# Altium footprint library QORVO_RADIO_FOOTPRINT_LIB.PcbLib: 18 footprints (part 1 of 2)
Each footprint in its own frame and in the unit in brackets; x right, y up, seen from the top. Pads: shape width x height; smd on the part's side, far side on the other; paste and mask are expansions set on the pad; w line width, h text height; cw(c..) or ccw(c..) is an arc to the next point about the centre after c.
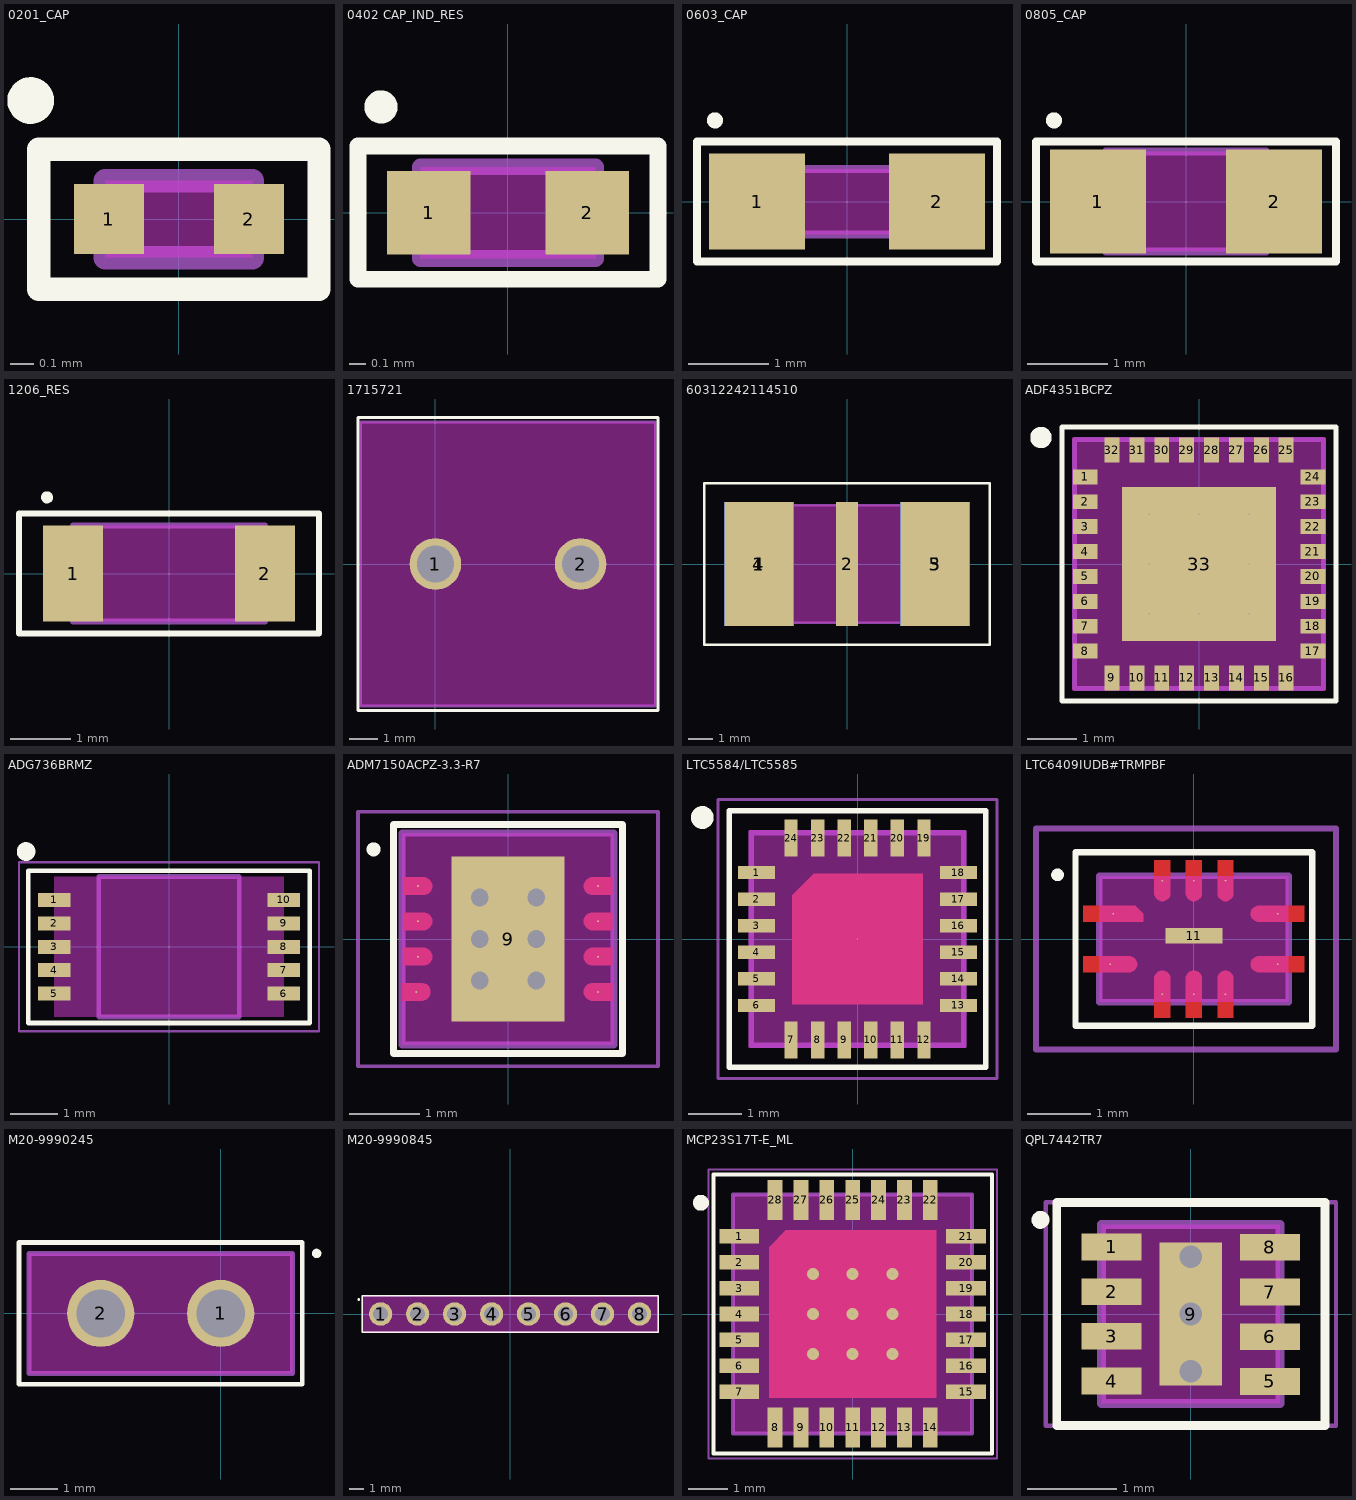
[diagram p0: the footprints below, top view; thin cyan lines are the x and y axes]

## 0201_CAP [mm]
pads (2):
  rect 0.3x0.3 smd mask+0.035: 1(-0.3,0) 2(0.3,0)
Top Overlay:
  circle w0.1: c-0.635,0.508 r0.05
  lines w0.1: -0.6,-0.3 0.6,-0.3 0.6,0.3 -0.6,0.3 -0.6,-0.3
Bottom Overlay:
  lines w0.1: -0.6,-0.3 0.6,-0.3 0.6,0.3 -0.6,0.3 -0.6,-0.3
Keep-Out Layer:
  rectangle: -0.315,-0.165 0.315,0.165
Mechanical 15:
  lines w0.1: -0.315,-0.165 0.315,-0.165 0.315,0.165 -0.315,0.165 -0.315,-0.165

## 0402 CAP_IND_RES [mm]
pads (2):
  rect 0.5x0.5 smd mask+0.035: 1(-0.475,0) 2(0.475,0)
Top Overlay:
  circle w0.1: c-0.762,0.635 r0.05
  lines w0.1: -0.9,-0.4 0.9,-0.4 0.9,0.4 -0.9,0.4 -0.9,-0.4
Bottom Overlay:
  lines w0.1: -0.9,-0.4 0.9,-0.4 0.9,0.4 -0.9,0.4 -0.9,-0.4
Keep-Out Layer:
  rectangle: -0.525,-0.275 0.525,0.275
Mechanical 15:
  lines w0.1: -0.525,-0.275 0.525,-0.275 0.525,0.275 -0.525,0.275 -0.525,-0.275

## 0603_CAP [mm]
pads (2):
  rect 1.2x1.2 smd mask+0.035: 1(-1.125,0) 2(1.125,0)
Top Overlay:
  circle w0.1: c-1.651,1.016 r0.05
  lines w0.1: -1.875,-0.75 1.875,-0.75 1.875,0.75 -1.875,0.75 -1.875,-0.75
Bottom Overlay:
  lines w0.1: -1.875,-0.75 1.875,-0.75 1.875,0.75 -1.875,0.75 -1.875,-0.75
Keep-Out Layer:
  rectangle: -0.81,-0.41 0.81,0.41
Mechanical 15:
  lines w0.1: -0.81,-0.41 0.81,-0.41 0.81,0.41 -0.81,0.41 -0.81,-0.41

## 0805_CAP [mm]
pads (2):
  rect 1.2x1.3 smd mask+0.035: 1(-1.1,0) 2(1.1,0)
Top Overlay:
  circle w0.1: c-1.651,1.016 r0.05
  lines w0.1: -1.875,-0.75 1.875,-0.75 1.875,0.75 -1.875,0.75 -1.875,-0.75
Bottom Overlay:
  lines w0.1: -1.875,-0.75 1.875,-0.75 1.875,0.75 -1.875,0.75 -1.875,-0.75
Keep-Out Layer:
  rectangle: -1,-0.625 1,0.625
Mechanical 15:
  lines w0.1: -1,-0.625 1,-0.625 1,0.625 -1,0.625 -1,-0.625

## 1206_RES [mm]
pads (2):
  rect 1x1.6 smd mask+0.035: 1(-1.6,0) 2(1.6,0)
Top Overlay:
  circle w0.1: c-2.032,1.27 r0.05
  lines w0.1: -2.5,-1 2.5,-1 2.5,1 -2.5,1 -2.5,-1
Bottom Overlay:
  lines w0.1: -2.5,-1 2.5,-1 2.5,1 -2.5,1 -2.5,-1
Keep-Out Layer:
  rectangle: -1.6,-0.8 1.6,0.8
Mechanical 15:
  lines w0.1: -1.6,-0.8 1.6,-0.8 1.6,0.8 -1.6,0.8 -1.6,-0.8

## 1715721 [mil] "PS CONNECTOR"
pads (2):
  round 71 / inner round 60 / far side round 71 hole 51.18 paste-99999 mask+0: 1(0,0) 2(200,0)
Top Overlay:
  lines w3.94: -106.69,-201.77 306.69,-201.77 306.69,201.77 -106.69,201.77 -106.69,-201.77
Bottom Overlay:
  lines w3.94: -106.69,-201.77 306.69,-201.77 306.69,201.77 -106.69,201.77 -106.69,-201.77
Keep-Out Layer:
  rectangle: -102.95,-195.87 302.95,195.87
Mechanical 15:
  lines w3.94: -102.95,-195.87 302.95,-195.87 302.95,195.87 -102.95,195.87 -102.95,-195.87
3D body "pxc_1715721_05_01_MKDS-1-5-2-5-08_3D.stp": height 559.05, standoff -137.8, extent -121.22,-185 301.22,202.01

## 60312242114510 [mm] "FEMALE SMA - EDGE MOUNT"
pads (5):
  rect 2.8x5 smd mask+0.1: 1(-3.55,0) 3(3.55,0)
  rect 0.9x5 smd mask+0.1: 2(0,0)
  rect 2.8x5 smd far side mask+0.1: 4(-3.55,0) 5(3.55,0)
Top Overlay:
  lines w0.1: -5.75,-3.25 5.75,-3.25 5.75,3.25 -5.75,3.25 -5.75,-3.25
Bottom Overlay:
  lines w0.1: -5.75,-3.25 5.75,-3.25 5.75,3.25 -5.75,3.25 -5.75,-3.25
Keep-Out Layer:
  rectangle: -4.76,-2.375 4.76,2.375
Mechanical 15:
  lines w0.1: -4.76,-2.375 4.76,-2.375 4.76,2.375 -4.76,2.375 -4.76,-2.375
3D body "Download_STP_60312242114510_rev1.stp": height 5.49, standoff -4.69, extent -5.1,-32.975 5.1,2.21

## ADF4351BCPZ [mm] "WIDEBAND SYNTHESIZER"
pads (33):
  rect 0.5x0.3 smd mask+0.05: 1(-2.286,1.75) 2(-2.286,1.25) 3(-2.286,0.75) 4(-2.286,0.25) 5(-2.286,-0.25) 6(-2.286,-0.75) 7(-2.286,-1.25) 8(-2.286,-1.75) 17(2.286,-1.75) 18(2.286,-1.25) 19(2.286,-0.75) 20(2.286,-0.25) 21(2.286,0.25) 22(2.286,0.75) 23(2.286,1.25) 24(2.286,1.75)
  rect 0.3x0.5 smd mask+0.05: 9(-1.75,-2.286) 10(-1.25,-2.286) 11(-0.75,-2.286) 12(-0.25,-2.286) 13(0.25,-2.286) 14(0.75,-2.286) 15(1.25,-2.286) 16(1.75,-2.286) 25(1.75,2.286) 26(1.25,2.286) 27(0.75,2.286) 28(0.25,2.286) 29(-0.25,2.286) 30(-0.75,2.286) 31(-1.25,2.286) 32(-1.75,2.286)
  rect 3.1x3.1 smd mask+0.15: 33(0,0)
via 1,1 diameter 0.3 hole 0
via 0,1 diameter 0.3 hole 0
via -1,1 diameter 0.3 hole 0
via 1,0 diameter 0.3 hole 0
via 0,0 diameter 0.3 hole 0
via -1,0 diameter 0.3 hole 0
via 1,-1 diameter 0.3 hole 0
via 0,-1 diameter 0.3 hole 0
via -1,-1 diameter 0.3 hole 0
Top Overlay:
  circle w0.23: c-3.175,2.54 r0.1
  lines w0.1: -2.75,-2.75 2.75,-2.75 2.75,2.75 -2.75,2.75 -2.75,-2.75
Bottom Overlay:
  lines w0.1: -2.75,-2.75 2.75,-2.75 2.75,2.75 -2.75,2.75 -2.75,-2.75
Keep-Out Layer:
  rectangle: -2.54,-2.54 2.54,2.54
Mechanical 13:
  lines w0.1: -2.5,-2.5 2.5,-2.5 2.5,2.5 -2.5,2.5 -2.5,-2.5
3D body "ADF4351BCPZ.stp": height 0.75, standoff 0, extent -2.5,-2.5 2.5,2.5

## ADG736BRMZ [mm] "SWITCH - SPDT"
pads (10):
  rect 0.7x0.3 smd mask-2539.97: 1(-2.45,1) 2(-2.45,0.5) 3(-2.45,0) 4(-2.45,-0.5) 5(-2.45,-1) 6(2.45,-1) 7(2.45,-0.5) 8(2.45,0) 9(2.45,0.5) 10(2.45,1)
Top Overlay:
  circle w0.2: c-3.048,2.032 r0.1
  lines w0.1: -3,-1.625 -3,1.625 3,1.625 3,-1.625 -3,-1.625
Bottom Overlay:
  lines w0.1: -3,-1.625 -3,1.625 3,1.625 3,-1.625 -3,-1.625
Top Solder:
  region: 2.025,-0.7 2.025,-0.3 2.875,-0.3 2.875,-0.7
  region: 2.025,-1.2 2.025,-0.8 2.875,-0.8 2.875,-1.2
  region: 2.025,0.8 2.025,1.2 2.875,1.2 2.875,0.8
  region: 2.025,0.3 2.025,0.7 2.875,0.7 2.875,0.3
  region: 2.025,-0.2 2.025,0.2 2.875,0.2 2.875,-0.2
  region: -2.875,-1.2 -2.875,-0.8 -2.025,-0.8 -2.025,-1.2
  region: -2.875,-0.7 -2.875,-0.3 -2.025,-0.3 -2.025,-0.7
  region: -2.875,0.8 -2.875,1.2 -2.025,1.2 -2.025,0.8
  region: -2.875,0.3 -2.875,0.7 -2.025,0.7 -2.025,0.3
  region: -2.875,-0.2 -2.875,0.2 -2.025,0.2 -2.025,-0.2
Keep-Out Layer:
  rectangle: -2.45,-1.5 2.45,1.5
Mechanical 15:
  lines w0.1: -1.5,-1.5 -1.5,1.5 1.5,1.5 1.5,-1.5 -1.5,-1.5
Mechanical 20:
  lines w0.05: -3.2,-1.8 -3.2,1.8 3.2,1.8 3.2,-1.8 -3.2,-1.8
3D body "ADG736BRMZ.stp": height 1.1, standoff 0, extent -2.45,-1.5 2.45,1.5

## ADM7150ACPZ-3.3-R7 [mm] "3.3V REG"
pads (9):
  round 0.025 smd mask-2539.97: 1(-1.275,0.75) 2(-1.3,-0.75) 2(-1.275,0.25) 3(-1.275,-0.25) 5(1.275,-0.75) 6(1.275,-0.25) 7(1.275,0.25) 8(1.275,0.75)
  rect 1.6x2.34 smd mask+0.1: 9(0,0)
via 0.4,-0.585 diameter 0.254 hole 0.254
via -0.4,-0.585 diameter 0.254 hole 0.254
via 0.4,0.585 diameter 0.254 hole 0.254
via -0.4,0.585 diameter 0.254 hole 0.254
via 0.4,0 diameter 0.254 hole 0.254
via -0.4,0 diameter 0.254 hole 0.254
Top Layer:
  region: -1.2,0.625 -1.475,0.625 -1.475,0.875 -1.2,0.875 -1.175,0.875 -1.129,0.856 -1.094,0.821 -1.075,0.775 -1.075,0.75 -1.075,0.725 -1.094,0.679 -1.129,0.644 -1.175,0.625
  region: -1.2,0.125 -1.475,0.125 -1.475,0.375 -1.2,0.375 -1.175,0.375 -1.129,0.356 -1.094,0.321 -1.075,0.275 -1.075,0.25 -1.075,0.225 -1.094,0.179 -1.129,0.144 -1.175,0.125
  region: 1.2,0.875 1.475,0.875 1.475,0.625 1.2,0.625 1.175,0.625 1.129,0.644 1.094,0.679 1.075,0.725 1.075,0.75 1.075,0.775 1.094,0.821 1.129,0.856 1.175,0.875
  region: 1.2,0.375 1.475,0.375 1.475,0.125 1.2,0.125 1.175,0.125 1.129,0.144 1.094,0.179 1.075,0.225 1.075,0.25 1.075,0.275 1.094,0.321 1.129,0.356 1.175,0.375
  region: 1.2,-0.125 1.475,-0.125 1.475,-0.375 1.2,-0.375 1.175,-0.375 1.129,-0.356 1.094,-0.321 1.075,-0.275 1.075,-0.25 1.075,-0.225 1.094,-0.179 1.129,-0.144 1.175,-0.125
  region: 1.2,-0.625 1.475,-0.625 1.475,-0.875 1.2,-0.875 1.175,-0.875 1.129,-0.856 1.094,-0.821 1.075,-0.775 1.075,-0.75 1.075,-0.725 1.094,-0.679 1.129,-0.644 1.175,-0.625
  region: -1.2,-0.375 -1.475,-0.375 -1.475,-0.125 -1.2,-0.125 -1.175,-0.125 -1.129,-0.144 -1.094,-0.179 -1.075,-0.225 -1.075,-0.25 -1.075,-0.275 -1.094,-0.321 -1.129,-0.356 -1.175,-0.375
  region: -1.225,-0.875 -1.5,-0.875 -1.5,-0.625 -1.225,-0.625 -1.2,-0.625 -1.154,-0.644 -1.119,-0.679 -1.1,-0.725 -1.1,-0.75 -1.1,-0.775 -1.119,-0.821 -1.154,-0.856 -1.2,-0.875
Top Overlay:
  circle w0.1: c-1.905,1.27 r0.05
  lines w0.1: -1.625,-1.625 -1.625,1.625 1.625,1.625 1.625,-1.625 -1.625,-1.625
Bottom Overlay:
  lines w0.1: -1.625,-1.625 -1.625,1.625 1.625,1.625 1.625,-1.625 -1.625,-1.625
Top Solder:
  drawing of 8 lines, arcs and shapes, not listed
Keep-Out Layer:
  rectangle: -1.5,-1.5 1.5,1.5
Mechanical 15:
  lines w0.1: -1.5,-1.5 1.5,-1.5 1.5,1.5 -1.5,1.5 -1.5,-1.5
Mechanical 20:
  lines w0.05: -2.125,-1.8 2.125,-1.8 2.125,1.8 -2.125,1.8 -2.125,-1.8
3D body "ADM7150ACPZ-3.3-R7.stp": height 0.85, standoff 0, extent -1.55,-1.5 1.55,1.5

## LTC5584/LTC5585 [mm] "MIXERS /  / LTC5585IUF#PBF / LTC5584IUF#PBF"
pads (25):
  rect 0.7x0.25 smd mask+0.05: 1(-1.9,1.25) 2(-1.9,0.75) 3(-1.9,0.25) 4(-1.9,-0.25) 5(-1.9,-0.75) 6(-1.9,-1.25) 13(1.9,-1.25) 14(1.9,-0.75) 15(1.9,-0.25) 16(1.9,0.25) 17(1.9,0.75) 18(1.9,1.25)
  rect 0.25x0.7 smd mask+0.05: 7(-1.25,-1.9) 8(-0.75,-1.9) 9(-0.25,-1.9) 10(0.25,-1.9) 11(0.75,-1.9) 12(1.25,-1.9) 19(1.25,1.9) 20(0.75,1.9) 21(0.25,1.9) 22(-0.25,1.9) 23(-0.75,1.9) 24(-1.25,1.9)
  round 0.025 smd mask-2539.97: 25(0,0)
Top Layer:
  region: 1.225,1.225 1.225,-1.225 -1.225,-1.225 -1.225,0.825 -0.825,1.225
Top Overlay:
  circle w0.23: c-2.921,2.286 r0.1
  lines w0.1: -2.413,-2.413 2.413,-2.413 2.413,2.413 -2.413,2.413 -2.413,-2.413
Bottom Overlay:
  lines w0.1: -2.413,-2.413 2.413,-2.413 2.413,2.413 -2.413,2.413 -2.413,-2.413
Top Solder:
  region: -1.25,-1.25 -1.25,1.25 1.25,1.25 1.25,-1.25
Keep-Out Layer:
  rectangle: -2.05,-2.05 2.05,2.05
Mechanical 15:
  lines w0.1: -2,-2 2,-2 2,2 -2,2 -2,-2
Mechanical 20:
  lines w0.05: -2.625,-2.625 2.625,-2.625 2.625,2.625 -2.625,2.625 -2.625,-2.625
3D body "LTC5585IUF#PBF.step": height 0.8, standoff 0, extent -2.05,-2.05 2.05,2.05

## LTC6409IUDB#TRMPBF [mm] "DIFFERENTAL OP-AMP"
height 0.8
pads (11):
  round 0.025 smd mask-2539.97: 1(-1.275,0.4) 2(-1.325,-0.4) 3(-0.5,-0.875) 4(0,-0.875) 5(0.5,-0.875) 6(1.325,-0.4) 7(1.325,0.4) 8(0.5,0.925) 9(0,0.925) 10(-0.5,0.925)
  rect 0.9x0.25 smd mask-2539.97: 11(0,0.05)
Top Layer:
  region: 1.025,0.525 1.75,0.525 1.75,0.275 1.025,0.275 1,0.275 0.954,0.294 0.919,0.329 0.9,0.375 0.9,0.4 0.9,0.425 0.919,0.471 0.954,0.506 1,0.525
  region: 1.025,-0.275 1.75,-0.275 1.75,-0.525 1.025,-0.525 1,-0.525 0.954,-0.506 0.919,-0.471 0.9,-0.425 0.9,-0.4 0.9,-0.375 0.919,-0.329 0.954,-0.294 1,-0.275
  region: 0.625,-0.625 0.625,-1.25 0.375,-1.25 0.375,-0.625 0.375,-0.6 0.394,-0.554 0.429,-0.519 0.475,-0.5 0.5,-0.5 0.525,-0.5 0.571,-0.519 0.606,-0.554 0.625,-0.6
  region: 0.125,-0.625 0.125,-1.25 -0.125,-1.25 -0.125,-0.625 -0.125,-0.6 -0.106,-0.554 -0.071,-0.519 -0.025,-0.5 0,-0.5 0.025,-0.5 0.071,-0.519 0.106,-0.554 0.125,-0.6
  region: -0.375,-0.625 -0.375,-1.25 -0.625,-1.25 -0.625,-0.625 -0.625,-0.6 -0.606,-0.554 -0.571,-0.519 -0.525,-0.5 -0.5,-0.5 -0.475,-0.5 -0.429,-0.519 -0.394,-0.554 -0.375,-0.6
  region: -1.025,-0.525 -1.75,-0.525 -1.75,-0.275 -1.025,-0.275 -1,-0.275 -0.954,-0.294 -0.919,-0.329 -0.9,-0.375 -0.9,-0.4 -0.9,-0.425 -0.919,-0.471 -0.954,-0.506 -1,-0.525
  region: -0.8,0.275 -1.75,0.275 -1.75,0.525 -0.925,0.525 -0.8,0.4
  region: 0.375,0.725 0.375,1.25 0.625,1.25 0.625,0.725 0.625,0.7 0.606,0.654 0.571,0.619 0.525,0.6 0.5,0.6 0.475,0.6 0.429,0.619 0.394,0.654 0.375,0.7
  region: -0.125,0.725 -0.125,1.25 0.125,1.25 0.125,0.725 0.125,0.7 0.106,0.654 0.071,0.619 0.025,0.6 0,0.6 -0.025,0.6 -0.071,0.619 -0.106,0.654 -0.125,0.7
  region: -0.625,0.725 -0.625,1.25 -0.375,1.25 -0.375,0.725 -0.375,0.7 -0.394,0.654 -0.429,0.619 -0.475,0.6 -0.5,0.6 -0.525,0.6 -0.571,0.619 -0.606,0.654 -0.625,0.7
Top Overlay:
  circle w0.1: c-2.159,1.016 r0.05
  lines w0.1: -1.875,-1.375 1.875,-1.375 1.875,1.375 -1.875,1.375 -1.875,-1.375
Top Solder:
  drawing of 11 lines, arcs and shapes, not listed
Keep-Out Layer:
  rectangle: -1.5,-1 1.5,1
Mechanical 15:
  lines w0.1: -1.5,-1 -1.5,1 1.5,1 1.5,-1 -1.5,-1
Mechanical 20:
  lines w0.1: -2.5,-1.75 -2.5,1.75 2.25,1.75 2.25,-1.75 -2.5,-1.75
3D body: height 0.8, standoff 0.05, extent -1.524,-1.016 1.524,1.016
3D body: height 0.8, standoff 0.05, extent -1.524,-1.016 1.524,1.016

## M20-9990245 [mil] "HEADER FOR I/O CONTROL - 2"
pads (2):
  round 56 hole 40.16 paste-99999 mask+0: 1(0,0) 2(-100,0)
Top Overlay:
  circle w3.94: c80,50 r1.97
  lines w3.94: -168.11,-59.06 68.11,-59.06 68.11,59.06 -168.11,59.06 -168.11,-59.06
Bottom Overlay:
  lines w3.94: -167.5,-60 68.72,-60 68.72,58.11 -167.5,58.11 -167.5,-60
Keep-Out Layer:
  rectangle: -160,-50 60,50
Mechanical 15:
  lines w3.94: -159.84,-50 59.84,-50 59.84,50 -159.84,50 -159.84,-50
3D body "M20-9990245.step": height 340.55, standoff -119.29, extent -150,-50 50,50

## M20-9990845 [mm] "HEADER FOR I/O CONTROL - 8 PIN"
pads (8):
  round 1.605 hole 1.02: 1(-8.89,0) 2(-6.35,0) 3(-3.81,0) 4(-1.27,0) 5(1.27,0) 6(3.81,0) 7(6.35,0) 8(8.89,0)
Top Overlay:
  circle w0.1: c-10.39,0.987 r0.05
  lines w0.1: -10.16,-1.27 10.16,-1.27 10.16,1.27 -10.16,1.27 -10.16,-1.27
Bottom Overlay:
  lines w0.1: -10.16,-1.27 10.16,-1.27 10.16,1.27 -10.16,1.27 -10.16,-1.27
Keep-Out Layer:
  rectangle: -10.16,-1.27 10.16,1.27
Mechanical 15:
  lines w0.1: -10.16,-1.27 10.16,-1.27 10.16,1.27 -10.16,1.27 -10.16,-1.27

## MCP23S17T-E_ML [mm] "I/O EXPANDER"
pads (29):
  rect 1x0.37 smd mask+0.04: 1(-2.85,1.95) 2(-2.85,1.3) 3(-2.85,0.65) 4(-2.85,0) 5(-2.85,-0.65) 6(-2.85,-1.3) 7(-2.85,-1.95) 15(2.85,-1.95) 16(2.85,-1.3) 17(2.85,-0.65) 18(2.85,0) 19(2.85,0.65) 20(2.85,1.3) 21(2.85,1.95)
  rect 0.37x1 smd mask+0.04: 8(-1.95,-2.85) 9(-1.3,-2.85) 10(-0.65,-2.85) 11(0,-2.85) 12(0.65,-2.85) 13(1.3,-2.85) 14(1.95,-2.85) 22(1.95,2.865) 23(1.3,2.865) 24(0.65,2.865) 25(0,2.865) 26(-0.65,2.865) 27(-1.3,2.865) 28(-1.95,2.865)
  round 0.025 smd mask-2539.97: 29(0,0)
via 1,1 diameter 0.3 hole 0
via 0,1 diameter 0.3 hole 0
via -1,1 diameter 0.3 hole 0
via 1,0 diameter 0.3 hole 0
via 0,0 diameter 0.3 hole 0
via -1,0 diameter 0.3 hole 0
via 1,-1 diameter 0.3 hole 0
via 0,-1 diameter 0.3 hole 0
via -1,-1 diameter 0.3 hole 0
Top Layer:
  region: 2.1,2.1 2.1,-2.1 -2.1,-2.1 -2.1,1.68 -1.68,2.1
Top Overlay:
  circle w0.2: c-3.81,2.794 r0.1
  lines w0.1: -3.5,-3.5 -3.5,3.5 3.5,3.5 3.5,-3.5 -3.5,-3.5
Bottom Overlay:
  lines w0.1: -3.5,-3.5 -3.5,3.5 3.5,3.5 3.5,-3.5 -3.5,-3.5
Top Solder:
  region: -2.125,-2.125 -2.125,2.125 2.125,2.125 2.125,-2.125
Keep-Out Layer:
  rectangle: -3,-3 3,3
Mechanical 15:
  lines w0.1: -3,-3 -3,3 3,3 3,-3 -3,-3
Mechanical 20:
  lines w0.05: -3.625,-3.625 -3.625,3.625 3.625,3.625 3.625,-3.625 -3.625,-3.625
3D body "MCP23S17T-E_ML.stp": height 1, standoff 0, extent -3.056,-3.056 3.044,3.044

## QPL7442TR7 [mm] "LNA"
pads (9):
  rect 0.67x0.3 smd mask+0.05: 1(-0.885,0.75) 2(-0.885,0.25) 3(-0.885,-0.25) 4(-0.885,-0.75) 5(0.885,-0.754) 6(0.885,-0.254) 7(0.885,0.246) 8(0.885,0.746)
  rect 0.7x1.6 smd mask+0.1: 9(0,0)
via 0,-0.64 diameter 0.254 hole 0.254
via 0,0.64 diameter 0.254 hole 0.254
via 0,0 diameter 0.254 hole 0.254
Top Overlay:
  circle w0.1: c-1.682,1.053 r0.05
  lines w0.1: -1.5,-1.25 -1.5,1.25 1.5,1.25 1.5,-1.25 -1.5,-1.25
Bottom Overlay:
  lines w0.1: -1.5,-1.25 -1.5,1.25 1.5,1.25 1.5,-1.25 -1.5,-1.25
Keep-Out Layer:
  rectangle: -1,-1 1,1
Mechanical 15:
  lines w0.1: -1,-1 1,-1 1,1 -1,1 -1,-1
Mechanical 20:
  lines w0.05: -1.625,-1.25 1.625,-1.25 1.625,1.25 -1.625,1.25 -1.625,-1.25
3D body "QPL7442TR7.stp": height 0.95, standoff 0, extent -1.05,-1 1.05,1